# EAGLE library part EXBS8V_S (library resistor-array)
EXB Series (0805) - Panasonic 4 Resistors, 8 Terminations
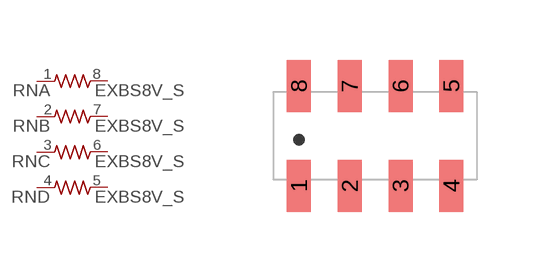
[diagram p18: symbol with the pads of EXBS8V; footprint EXBS8V]

Designator prefix RN; gates A=R1NV B=R1NV C=R1NV D=R1NV

## EXBS8V_S  [EXBS8V]
1  A:1  pas
2  B:1  pas
3  C:1  pas
4  D:1  pas
5  D:2  pas
6  C:2  pas
7  B:2  pas
8  A:2  pas

## Footprint EXBS8V (pad centres in mm)
EXBS8V (0805) - Panasonic
smd 0.6 x 1.3: 1 -1.905,-1.25; 2 -0.635,-1.25; 3 0.635,-1.25; 4 1.905,-1.25; 5 1.905,1.25; 6 0.635,1.25; 7 -0.635,1.25; 8 -1.905,1.25